# Altium schematic symbol library RT.Schlib: 1 symbol
Pins are listed as number, name and electrical type; pins without a type are passive.

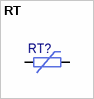
[diagram p0: symbol RT]

## RT
designator RT?, comment R  (value not drawn)
pins: 1, 2
1 alternate drawing of the same symbol